# EAGLE library part 66202021022 (library Wire_to_Board_Connectors_rev15d)
WR-MPC3 3.00mm Male Dual Row Angled Header with Plastic Pegs, 20 Pins=>Code : Con_WTB-MPC3_2_PCB_THT66202021022 <http://katalog.we-online.de/media/thumbs2/eican/thb_Con_WTB-MPC3_2_PCB_THT86220xx21022_pf2.jpg> Details see: http://katalog.we-online.de/en/em/662_0xx_210_22 Created 2014-06-06, Karrer Zheng 2014 (C) Würth Elektronik
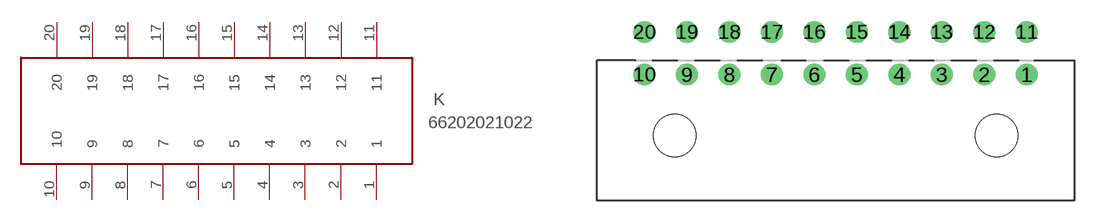
[diagram p388: symbol with the pads of 66202021022; footprint 66202021022]

Designator prefix K

## 66202021022  [66202021022]
1  1
2  2
3  3
4  4
5  5
6  6
7  7
8  8
9  9
10  10
11  11
12  12
13  13
14  14
15  15
16  16
17  17
18  18
19  19
20  20

## Footprint 66202021022 (pad centres in mm)
WR-MPC3 3.00mm Male Dual Row Angled Header with Plastic Pegs, 20 Pins
drill 1.02: 1 13.5,4.3; 2 10.5,4.3; 3 7.5,4.3; 4 4.5,4.3; 5 1.5,4.3; 6 -1.5,4.3; 7 -4.5,4.3; 8 -7.5,4.3; 9 -10.5,4.3; 10 -13.5,4.3; 11 13.5,7.3; 12 10.5,7.3; 13 7.5,7.3; 14 4.5,7.3; 15 1.5,7.3; 16 -1.5,7.3; 17 -4.5,7.3; 18 -7.5,7.3; 19 -10.5,7.3; 20 -13.5,7.3
hole 3 at 11.35,0
hole 3 at -11.35,0